# EAGLE library part LM13700 (library _mtvl_ic)
Dual OTA with buffers
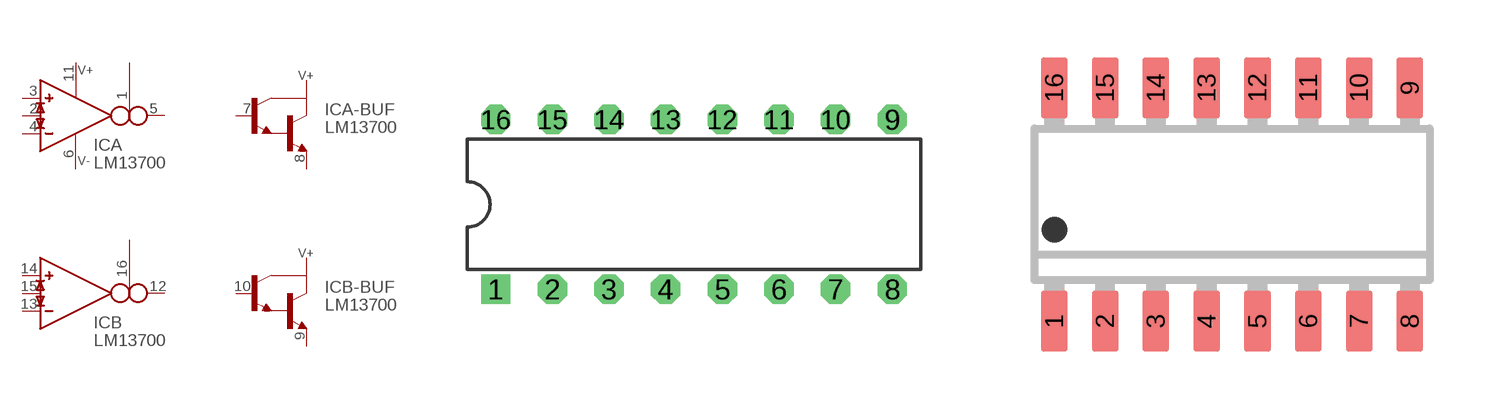
[diagram p4: symbol with the pads of DIL16_; footprints DIL16_, SO16_]

Designator prefix IC; gates A=OTA A-BUF=BUF1 B=OTA B-BUF=BUF1 SUPPLY=OTA_SUPPLY

## LM13700N  [DIL16_]
1  A:I_BIAS  in
2  A:I_DIODE  in
3  A:IN_P  in
4  A:IN_N  in
5  A:OUT  out
6  SUPPLY:V-  pwr
7  A-BUF:B  pas
8  A-BUF:E  pas
9  B-BUF:E  pas
10  B-BUF:B  pas
11  SUPPLY:V+  pwr
12  B:OUT  out
13  B:IN_N  in
14  B:IN_P  in
15  B:I_DIODE  in
16  B:I_BIAS  in

## LM13700M  [SO16_]
Pads as for DIL16_

## LM13700MX  [SO16_]
Pads as for DIL16_

## LM13700M_HGSEMI_SOP-16  [SOP-16]
Pads as for DIL16_

## Footprint DIL16_ (pad centres in mm)
Dual In Line Package
drill 0.813 square: 1 -8.89,-3.81
drill 0.813 octagon: 2 -6.35,-3.81; 3 -3.81,-3.81; 4 -1.27,-3.81; 5 1.27,-3.81; 6 3.81,-3.81; 7 6.35,-3.81; 8 8.89,-3.81; 9 8.89,3.81; 10 6.35,3.81; 11 3.81,3.81; 12 1.27,3.81; 13 -1.27,3.81; 14 -3.81,3.81; 15 -6.35,3.81; 16 -8.89,3.81

## Footprint SO16_ (pad centres in mm)
SMALL OUTLINE INTEGRATED CIRCUIT body 3.9 mm/JEDEC MS-012AC
smd 0.66 x 1.524: 1 -4.445,-2.921; 2 -3.175,-2.921; 3 -1.905,-2.921; 4 -0.635,-2.921; 5 0.635,-2.921; 6 1.905,-2.921; 7 3.175,-2.921; 8 4.445,-2.921; 9 4.445,2.921; 10 3.175,2.921; 11 1.905,2.921; 12 0.635,2.921; 13 -0.635,2.921; 14 -1.905,2.921; 15 -3.175,2.921; 16 -4.445,2.921

## Footprint SOP-16 (pad centres in mm)
smd 0.76 x 1.27: 1 -4.445,-3.81; 2 -3.175,-3.81; 3 -1.905,-3.81; 4 -0.635,-3.81; 5 0.635,-3.81; 6 1.905,-3.81; 7 3.175,-3.81; 8 4.445,-3.81; 9 4.445,3.81; 10 3.175,3.81; 11 1.905,3.81; 12 0.635,3.81; 13 -0.635,3.81; 14 -1.905,3.81; 15 -3.175,3.81; 16 -4.445,3.81